# EAGLE library part LM4871 (library custom)
Audio Amplifier 3W Mono 3Ohm 2-5.5V
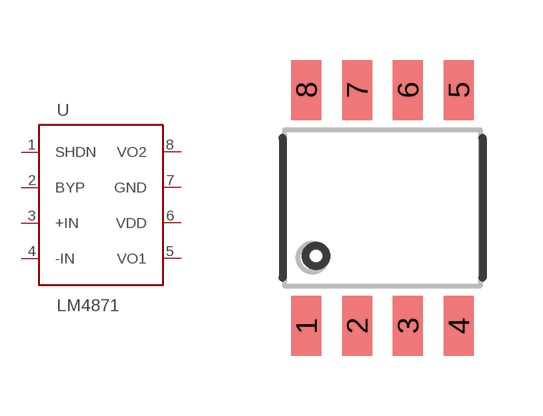
[diagram p22: symbol with the pads of 8-SOIC; footprint 8-SOIC]

Designator prefix -

## LM4871  [8-SOIC]
1  SHDN
2  BYP
3  +IN
4  -IN
5  VO1
6  VDD
7  GND
8  VO2

## Footprint 8-SOIC (pad centres in mm)
smd 0.75 x 1.5: 1 -1.905,-2.95; 2 -0.635,-2.95; 3 0.635,-2.95; 4 1.905,-2.95; 5 1.905,2.95; 6 0.635,2.95; 7 -0.635,2.95; 8 -1.905,2.95